# Altium integrated library TL072CPE4.IntLib: 1 symbol
Pins are listed as number, name and electrical type; pins without a type are passive.

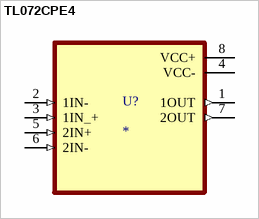
[diagram p0: symbol TL072CPE4]

## TL072CPE4
designator U?
Dual Low-Noise JFET-Input General-Purpose Operational Amplifier 8-PDIP 0 to 70; MF: Texas Instruments; MP: TL072CPE4; SnapEDA_Link: https://www.snapeda.com/parts/TL072CPE4/Texas+Instruments/view-part/?ref=snap; Package: PDIP-8 Texas; Value: *; Check_prices: https://www.snapeda.com/parts/TL072CPE4/Texas+Instruments/view-part/?ref=eda
footprint DIP794W45P254L959H508Q8
pins: 1 1OUT (out), 2 1IN- (in), 3 1IN_+ (in), 4 VCC- (power), 5 2IN+ (in), 6 2IN- (in), 7 2OUT (out), 8 VCC+ (power)